# Altium integrated library HT.IntLib: 1 symbol
Pins are listed as number, name and electrical type; pins without a type are passive.

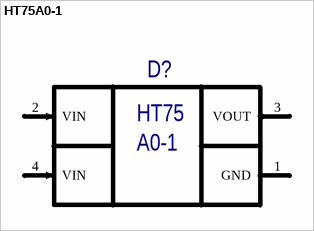
[diagram p0: symbol HT75A0-1]

## HT75A0-1
designator D?
IN-12V, OUT-10V; Type: Микросхема; BCPId: *; Name: *; Package: SOT89
footprint SOT89
pins: 1 GND (power), 2 VIN (in), 3 VOUT (out), 4 VIN (in)
text: HT75; A0-1